# Altium schematic symbol library CRCW060349K9FKEB.SchLib: 1 symbol
Pins are listed as number, name and electrical type; pins without a type are passive.

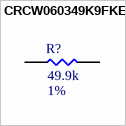
[diagram p0: symbol CRCW060349K9FKEB]

## CRCW060349K9FKEB
designator R?  Resistance: 49.9k  Tolerance: 1%  (hidden comment: CRCW060349K9FKEB)
RES SMD 49.9K OHM 1% 1/10W 0603; MFR: Vishay Dale; Footprint: RES0603; Package: 0603; ComponentLink1Description: Datasheet; Power Rating: 1/10W; Supplier 1: Mouser; Supplier Part Number 1: 71-CRCW060349K9FKEB
footprint RES0603 (Generic 0603)
pins: 1, 2